# Altium schematic symbol library VSS-Inductance.SchLib: 1 symbol
Pins are listed as number, name and electrical type; pins without a type are passive.

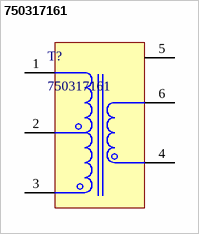
[diagram p0: symbol 750317161]

## 750317161
designator T?
Power Transformer EP5 SMT; Ui =; Manufacturer: Wurth Electronics; Value: 3mH; Supplier: Mouser; Supplier Part Number: 710-750317161; Manufacturer Part Number: 750317161; RoHS: No; Category: Uncategorized; Stock: 10763; Pricing: 1=2,98, 10=2,76, 50=2,76, 100=2,54, 1000=1,98, 10000=1,98 (USD); Mounting Technology: Surface Mount; Series: -
footprint 750317161
pins: 1, 2, 3, 4, 5, 6